# EAGLE library part 46112-0201 (library 46112-0201)
Heavy Duty Power Connectors LPH VERT.POWER ASSY SSY W INTERLOCK 2CKT Source: Datasheet <https://componentsearchengine.com/Datasheets/1/46112-0201.pdf>
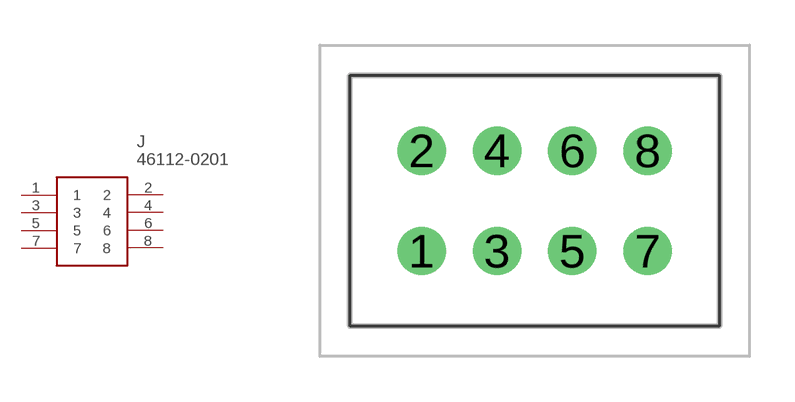
[diagram p0: symbol with the pads of 461120201; footprint 461120201]

Designator prefix J

## 46112-0201 (Description: Heavy Duty Power Connectors LPH VERT.POWER ASSY SSY W INTERLOCK 2CKT; Height: 15.21mm; Manufacturer_Name: Molex; Manufacturer_Part_Number: 46112-0201; Mouser_Part_Number: 538-46112-0201; Mouser_Price-Stock: https://www.mouser.com/Search/Refine.aspx?Keyword=538-46112-0201)  [461120201]
1  1
2  2
3  3
4  4
5  5
6  6
7  7
8  8

## Footprint 461120201 (pad centres in mm)
46112-0201-2
drill 1.07 pad 1.605: 1 0,0; 2 0,3.33; 3 2.5,0; 4 2.5,3.33; 5 5,0; 6 5,3.33; 7 7.5,0; 8 7.5,3.33